# EAGLE library part IC-DS13072+ (library RelayBoard)
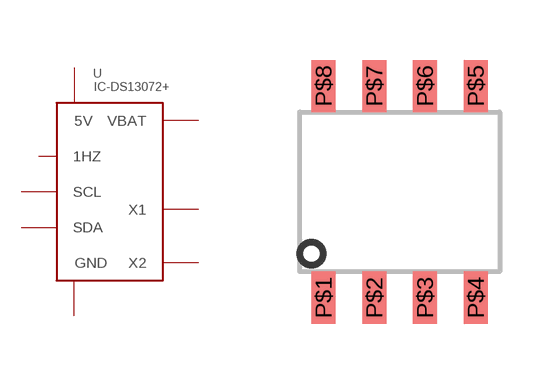
[diagram p7: symbol with the pads of SOIC-8-NXP-SOT96-1; footprint SOIC-8-NXP-SOT96-1]

Designator prefix -

## IC-DS13072+  [SOIC-8-NXP-SOT96-1]
P$1  X1  in
P$2  X2  in
P$3  VBAT  pwr
P$4  GND  pwr
P$5  SDA
P$6  SCL
P$7  1HZ  nc
P$8  5V  pwr

## Footprint SOIC-8-NXP-SOT96-1 (pad centres in mm)
http://www.nxp.com/documents/reflow_soldering/SO-SOJ-REFLOW.pdf
smd 0.6 x 1.3: P$1 0,-5.3; P$2 1.27,-5.3; P$3 2.54,-5.3; P$4 3.81,-5.3; P$5 3.81,0; P$6 2.54,0; P$7 1.27,0; P$8 0,0